# Altium footprint library Microcontrollers.PcbLib: 4 footprints
Each footprint in its own frame and in the unit in brackets; x right, y up, seen from the top. Pads: shape width x height; smd on the part's side, far side on the other; paste and mask are expansions set on the pad; w line width, h text height; cw(c..) or ccw(c..) is an arc to the next point about the centre after c.
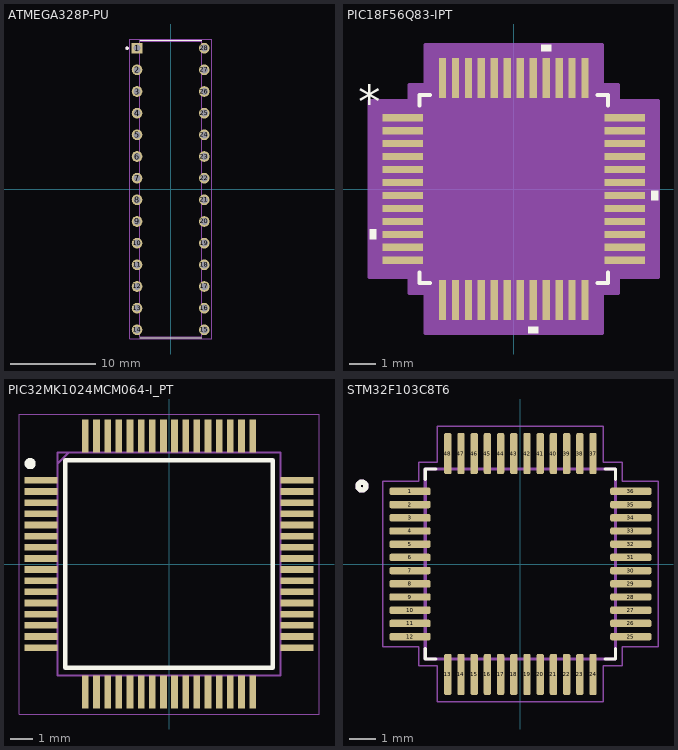
[diagram p0: the footprints below, top view; thin cyan lines are the x and y axes]

## ATMEGA328P-PU [mm] "28_Pin Narrow"
height 5.08
pads (28):
  rect 1.25x1.25 / inner round 1.25 / far side rect 1.25x1.25 hole 0.83: 1(-3.937,16.51)
  round 1.25 hole 0.83: 2(-3.937,13.97) 3(-3.937,11.43) 4(-3.937,8.89) 5(-3.937,6.35) 6(-3.937,3.81) 7(-3.937,1.27) 8(-3.937,-1.27) 9(-3.937,-3.81) 10(-3.937,-6.35) 11(-3.937,-8.89) 12(-3.937,-11.43) 13(-3.937,-13.97) 14(-3.937,-16.51) 15(3.937,-16.51) 16(3.937,-13.97) 17(3.937,-11.43) 18(3.937,-8.89) 19(3.937,-6.35) 20(3.937,-3.81) 21(3.937,-1.27) 22(3.937,1.27) 23(3.937,3.81) 24(3.937,6.35) 25(3.937,8.89) 26(3.937,11.43) 27(3.937,13.97) 28(3.937,16.51)
Top Overlay:
  circle w0.2: c-5.1,16.51 r0.1
  lines w0.127: -3.619,-17.455 3.619,-17.455 ; -3.619,17.455 3.619,17.455
Mechanical 13:
  circle w0.2: c-5.1,16.51 r0.1
  lines w0.127: -3.619,-17.335 -3.619,17.335 3.619,17.335 3.619,-17.335 -3.619,-17.335
Mechanical 15:
  lines w0.05: -4.812,-17.585 -4.812,17.585 4.812,17.585 4.812,-17.585 -4.812,-17.585
3D body "step_temp.STEP": height 4.57, standoff -3.43, extent -3.95,-17.335 3.95,17.335

## PIC18F56Q83-IPT [mil]
pads (48):
  rect 61x11 smd paste+0 mask+0: 1(-168.5,108.27) 2(-168.5,88.58) 3(-168.5,68.9) 4(-168.5,49.21) 5(-168.5,29.53) 6(-168.5,9.84) 7(-168.5,-9.84) 8(-168.5,-29.53) 9(-168.5,-49.21) 10(-168.5,-68.9) 11(-168.5,-88.58) 12(-168.5,-108.27) 25(168.5,-108.27) 26(168.5,-88.58) 27(168.5,-68.9) 28(168.5,-49.21) 29(168.5,-29.53) 30(168.5,-9.84) 31(168.5,9.84) 32(168.5,29.53) 33(168.5,49.21) 34(168.5,68.9) 35(168.5,88.58) 36(168.5,108.27)
  rect 11x61 smd paste+0 mask+0: 13(-108.27,-168.5) 14(-88.58,-168.5) 15(-68.9,-168.5) 16(-49.21,-168.5) 17(-29.53,-168.5) 18(-9.84,-168.5) 19(9.84,-168.5) 20(29.53,-168.5) 21(49.21,-168.5) 22(68.9,-168.5) 23(88.58,-168.5) 24(108.27,-168.5) 37(108.27,168.5) 38(88.58,168.5) 39(68.9,168.5) 40(49.21,168.5) 41(29.53,168.5) 42(9.84,168.5) 43(-9.84,168.5) 44(-29.53,168.5) 45(-49.21,168.5) 46(-68.9,168.5) 47(-88.58,168.5) 48(-108.27,168.5)
Top Overlay:
  region: 56.71,209 41.71,209 41.71,219 56.71,219
  region: 209,-2.34 219,-2.34 219,-17.34 209,-17.34
  region: 37.03,-209 22.03,-209 22.03,-219 37.03,-219
  region: -209,-61.4 -219,-61.4 -219,-76.4 -209,-76.4
  lines w6: -143,-126.87 -143,-143 -126.87,-143 ; -143,126.87 -143,143 -126.87,143 ; 126.87,-143 143,-143 143,-126.87 ; 126.87,143 143,143 143,126.87
  text "*" at -236.5,108.11 h50
Mechanical 13:
  drawing of 197 lines, arcs and shapes, not listed
  text "*" at -135.5,93.11 h50
Mechanical 15:
  region: -133.77,-158 -158,-158 -158,-133.77 -219,-133.77 -219,133.77 -158,133.77 -158,158 -133.77,158 -133.77,219 133.77,219 133.77,158 158,158 158,133.77 219,133.77 219,-133.77 158,-133.77 158,-158 133.77,-158 133.77,-219 -133.77,-219
  lines w6: -219,-133.77 -219,133.77 -158,133.77 -158,158 -133.77,158 -133.77,219 133.77,219 133.77,158 158,158 158,133.77 219,133.77 219,-133.77 158,-133.77 158,-158 133.77,-158 133.77,-219 -133.77,-219 -133.77,-158 -158,-158 -158,-133.77 -219,-133.77
3D body "TQFP48_PT_MCH.step": height 47.09, standoff 0, extent -177.01,-177.01 177.01,177.01

## PIC32MK1024MCM064-I_PT [mm]
pads (64):
  rect 1.475x0.3 smd: 1(-5.738,3.75) 2(-5.738,3.25) 3(-5.738,2.75) 4(-5.738,2.25) 5(-5.738,1.75) 6(-5.738,1.25) 7(-5.738,0.75) 8(-5.738,0.25) 9(-5.738,-0.25) 10(-5.738,-0.75) 11(-5.738,-1.25) 12(-5.738,-1.75) 13(-5.738,-2.25) 14(-5.738,-2.75) 15(-5.738,-3.25) 16(-5.738,-3.75) 33(5.738,-3.75) 34(5.738,-3.25) 35(5.738,-2.75) 36(5.738,-2.25) 37(5.738,-1.75) 38(5.738,-1.25) 39(5.738,-0.75) 40(5.738,-0.25) 41(5.738,0.25) 42(5.738,0.75) 43(5.738,1.25) 44(5.738,1.75) 45(5.738,2.25) 46(5.738,2.75) 47(5.738,3.25) 48(5.738,3.75)
  rect 0.3x1.475 smd: 17(-3.75,-5.738) 18(-3.25,-5.738) 19(-2.75,-5.738) 20(-2.25,-5.738) 21(-1.75,-5.738) 22(-1.25,-5.738) 23(-0.75,-5.738) 24(-0.25,-5.738) 25(0.25,-5.738) 26(0.75,-5.738) 27(1.25,-5.738) 28(1.75,-5.738) 29(2.25,-5.738) 30(2.75,-5.738) 31(3.25,-5.738) 32(3.75,-5.738) 49(3.75,5.738) 50(3.25,5.738) 51(2.75,5.738) 52(2.25,5.738) 53(1.75,5.738) 54(1.25,5.738) 55(0.75,5.738) 56(0.25,5.738) 57(-0.25,5.738) 58(-0.75,5.738) 59(-1.25,5.738) 60(-1.75,5.738) 61(-2.25,5.738) 62(-2.75,5.738) 63(-3.25,5.738) 64(-3.75,5.738)
Top Overlay:
  circle w0.25: c-6.225,4.5 r0.125
  lines w0.2: -4.65,-4.65 4.65,-4.65 4.65,4.65 -4.65,4.65 -4.65,-4.65
Mechanical 13:
  lines w0.1: -5,4.5 -4.5,5 ; -5,-5 5,-5 5,5 -5,5 -5,-5
Mechanical 15:
  lines w0.05: -6.725,-6.725 6.725,-6.725 6.725,6.725 -6.725,6.725 -6.725,-6.725
3D body "PIC32MK1024MCM064-I_PT.stp": height 1.2, standoff 0, extent -6,-6 6,6

## STM32F103C8T6 [mm]
pads (48):
  rrect50% 1.56x0.28 smd: 1(-4.18,2.75) 2(-4.18,2.25) 3(-4.18,1.75) 4(-4.18,1.25) 5(-4.18,0.75) 6(-4.18,0.25) 7(-4.18,-0.25) 8(-4.18,-0.75) 9(-4.18,-1.25) 10(-4.18,-1.75) 11(-4.18,-2.25) 12(-4.18,-2.75) 25(4.18,-2.75) 26(4.18,-2.25) 27(4.18,-1.75) 28(4.18,-1.25) 29(4.18,-0.75) 30(4.18,-0.25) 31(4.18,0.25) 32(4.18,0.75) 33(4.18,1.25) 34(4.18,1.75) 35(4.18,2.25) 36(4.18,2.75)
  rrect50% 0.28x1.56 smd: 13(-2.75,-4.18) 14(-2.25,-4.18) 15(-1.75,-4.18) 16(-1.25,-4.18) 17(-0.75,-4.18) 18(-0.25,-4.18) 19(0.25,-4.18) 20(0.75,-4.18) 21(1.25,-4.18) 22(1.75,-4.18) 23(2.25,-4.18) 24(2.75,-4.18) 37(2.75,4.18) 38(2.25,4.18) 39(1.75,4.18) 40(1.25,4.18) 41(0.75,4.18) 42(0.25,4.18) 43(-0.25,4.18) 44(-0.75,4.18) 45(-1.25,4.18) 46(-1.75,4.18) 47(-2.25,4.18) 48(-2.75,4.18)
Top Overlay:
  circle w0.2: c-6,2.95 r0.15
  lines w0.127: -3.6,-3.21 -3.6,-3.6 -3.21,-3.6 ; -3.6,3.21 -3.6,3.6 -3.21,3.6 ; 3.21,-3.6 3.6,-3.6 3.6,-3.21 ; 3.21,3.6 3.6,3.6 3.6,3.21
Mechanical 13:
  circle w0.2: c-6,2.95 r0.15
  lines w0.127: -3.6,-3.6 3.6,-3.6 3.6,3.6 -3.6,3.6 -3.6,-3.6
Mechanical 15:
  lines w0.05: -5.21,-3.14 -3.85,-3.14 -3.85,-3.85 -3.14,-3.85 -3.14,-5.21 3.14,-5.21 3.14,-3.85 3.85,-3.85 3.85,-3.14 5.21,-3.14 5.21,3.14 3.85,3.14 3.85,3.85 3.14,3.85 3.14,5.21 -3.14,5.21 -3.14,3.85 -3.85,3.85 -3.85,3.14 -5.21,3.14 -5.21,-3.14
3D body "step_temp.STEP": height 1.6, standoff 0, extent -4.5,-4.5 4.5,4.5